# Altium schematic symbol library cm4-carrier-net.SchLib: 27 symbols
Pins are listed as number, name and electrical type; pins without a type are passive.

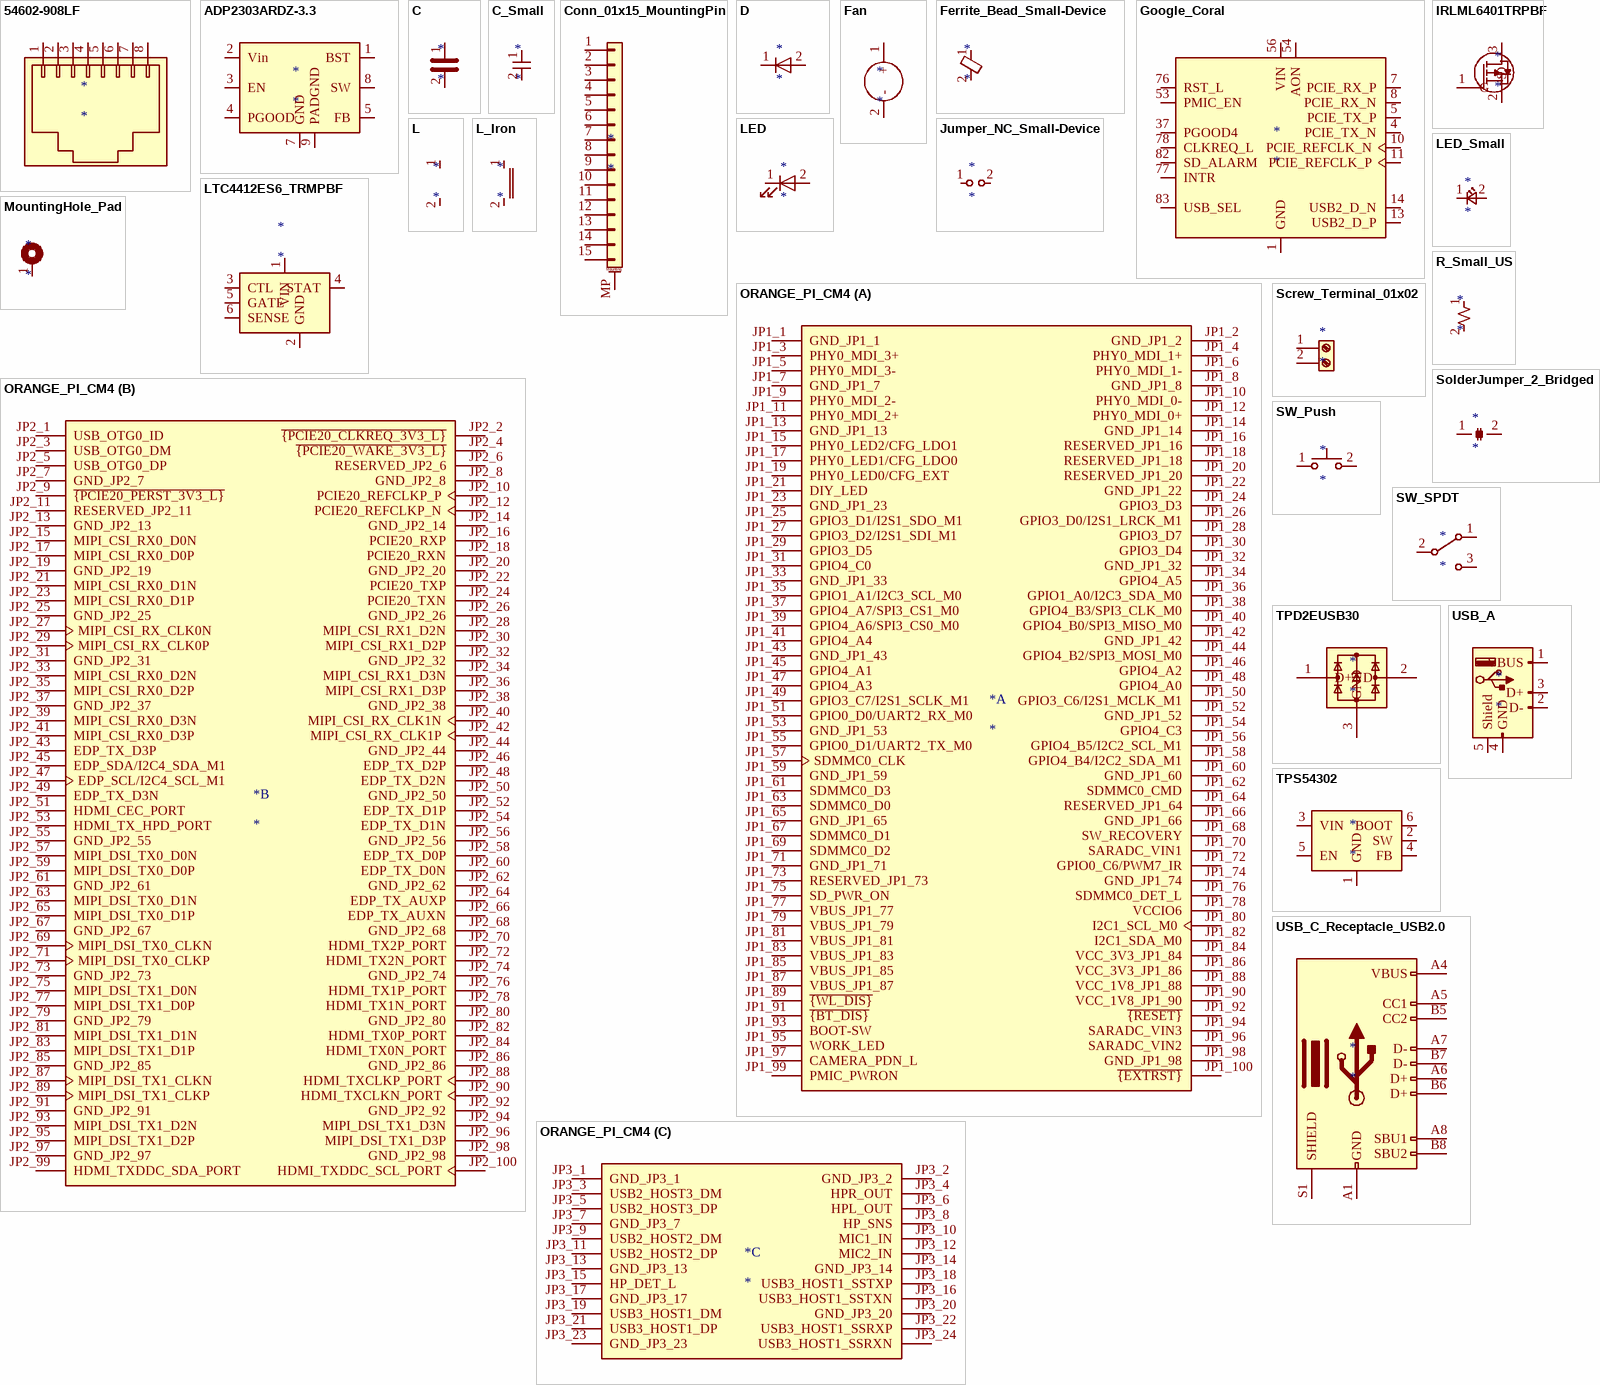
[diagram p0: symbols 54602-908LF to USB_C_Receptacle_USB2.0]

## 54602-908LF
designator *
pins: 1, 2, 3, 4, 5, 6, 7, 8

## ADP2303ARDZ-3.3
designator *
pins: 1 BST, 2 Vin, 3 EN, 4 PGOOD, 5 FB, 6 NC hidden, 7 GND, 8 SW, 9 PADGND

## C
designator *
pins: 1, 2

## C_Small
designator *
pins: 1, 2

## Conn_01x15_MountingPin
designator *
pins: 1 Pin_1, 2 Pin_2, 3 Pin_3, 4 Pin_4, 5 Pin_5, 6 Pin_6, 7 Pin_7, 8 Pin_8, 9 Pin_9, 10 Pin_10, 11 Pin_11, 12 Pin_12, 13 Pin_13, 14 Pin_14, 15 Pin_15, MP MountPin
text: Mounting

## D
designator *
pins: 1 K, 2 A

## Fan
designator *
pins: 1 +, 2 -

## Ferrite_Bead_Small-Device
designator *
pins: 1, 2

## Google_Coral
designator *
pins: 1 GND, 2 GND hidden, 3 GND hidden, 4 PCIE_TX_N, 5 PCIE_TX_P, 6 GND hidden, 7 PCIE_RX_P, 8 PCIE_RX_N, 9 GND hidden, 10 PCIE_REFCLK_N, 11 PCIE_REFCLK_P, 12 GND hidden, 13 USB2_D_P, 14 USB2_D_N, 15 GND hidden, 16 GND hidden, 17 GND hidden, 18 GND hidden, 19 GND hidden, 20 GND hidden, 21 GND hidden, 22 GND hidden, 23 GND hidden, 24 GND hidden, 25 GND hidden, 26 GND hidden, 27 GND hidden, 28 GND hidden, 29 GND hidden, 30 GND hidden, 31 GND hidden, 32 GND hidden, 33 GND hidden, 34 GND hidden, 35 GND hidden, 36 GND hidden, 37 PGOOD4, 38 GND hidden, 39 GND hidden, 40 GND hidden, 41 GND hidden, 42 GND hidden, 43 GND hidden, 44 GND hidden, 45 GND hidden, 46 GND hidden, 47 GND hidden, 48 GND hidden, 49 RESERVED hidden, 50 RESERVED hidden, 51 GND hidden, 52 RESERVED hidden, 53 PMIC_EN, 54 AON, 55 GND hidden, 56 VIN, 57 VIN hidden, 58 VIN hidden, 59 VIN hidden, 60 VIN hidden, 61 VIN hidden, 62 VIN hidden, 63 VIN hidden, 64 VIN hidden, 65 VIN hidden, 66 VIN hidden, 67 VIN hidden, 68 GND hidden, 69 GND hidden, 70 GND hidden, 71 GND hidden, 72 GND hidden, 73 GND hidden, 74 GND hidden, 75 GND hidden, 76 RST_L, 77 INTR, 78 CLKREQ_L, 79 GND hidden, 80 GND hidden, 81 GND hidden, 82 SD_ALARM, 83 USB_SEL, 84 RESERVED hidden, 85 RESERVED hidden, 86 GND hidden, 87 GND hidden, 88 GND hidden, 89 GND hidden, 90 GND hidden, 91 GND hidden, 92 GND hidden, 93 GND hidden, 94 GND hidden, 95 GND hidden, 96 GND hidden, 97 GND hidden, 98 GND hidden, 99 GND hidden, 100 GND hidden, 101 GND hidden, 102 GND hidden, 103 GND hidden, 104 GND hidden, 105 GND hidden, 106 GND hidden, 107 GND hidden, 108 GND hidden, 109 GND hidden, 110 GND hidden, 111 GND hidden, 112 GND hidden, 113 GND hidden, 114 GND hidden, 115 GND hidden, 116 GND hidden, 117 GND hidden, 118 GND hidden, 119 GND hidden, 120 GND hidden

## IRLML6401TRPBF
designator *
pins: 1 G, 2 S, 3 D

## Jumper_NC_Small-Device
designator *
pins: 1, 2

## L
designator *
pins: 1, 2

## L_Iron
designator *
pins: 1, 2

## LED
designator *
pins: 1 K, 2 A

## LED_Small
designator *
pins: 1 K, 2 A

## LTC4412ES6_TRMPBF
designator *
pins: 1 VIN, 2 GND, 3 CTL, 4 STAT, 5 GATE, 6 SENSE

## MountingHole_Pad
designator *
pins: 1

## ORANGE_PI_CM4
designator *
part A pins: JP1_1 GND_JP1_1, JP1_2 GND_JP1_2, JP1_3 PHY0_MDI_3+, JP1_4 PHY0_MDI_1+, JP1_5 PHY0_MDI_3-, JP1_6 PHY0_MDI_1-, JP1_7 GND_JP1_7, JP1_8 GND_JP1_8, JP1_9 PHY0_MDI_2-, JP1_10 PHY0_MDI_0-, JP1_11 PHY0_MDI_2+, JP1_12 PHY0_MDI_0+, JP1_13 GND_JP1_13, JP1_14 GND_JP1_14, JP1_15 PHY0_LED2/CFG_LDO1, JP1_16 RESERVED_JP1_16, JP1_17 PHY0_LED1/CFG_LDO0, JP1_18 RESERVED_JP1_18, JP1_19 PHY0_LED0/CFG_EXT, JP1_20 RESERVED_JP1_20, JP1_21 DIY_LED, JP1_22 GND_JP1_22, JP1_23 GND_JP1_23, JP1_24 GPIO3_D3, JP1_25 GPIO3_D1/I2S1_SDO_M1, JP1_26 GPIO3_D0/I2S1_LRCK_M1, JP1_27 GPIO3_D2/I2S1_SDI_M1, JP1_28 GPIO3_D7, JP1_29 GPIO3_D5, JP1_30 GPIO3_D4, JP1_31 GPIO4_C0, JP1_32 GND_JP1_32, JP1_33 GND_JP1_33, JP1_34 GPIO4_A5, JP1_35 GPIO1_A1/I2C3_SCL_M0, JP1_36 GPIO1_A0/I2C3_SDA_M0, JP1_37 GPIO4_A7/SPI3_CS1_M0, JP1_38 GPIO4_B3/SPI3_CLK_M0, JP1_39 GPIO4_A6/SPI3_CS0_M0, JP1_40 GPIO4_B0/SPI3_MISO_M0, JP1_41 GPIO4_A4, JP1_42 GND_JP1_42, JP1_43 GND_JP1_43, JP1_44 GPIO4_B2/SPI3_MOSI_M0, JP1_45 GPIO4_A1, JP1_46 GPIO4_A2, JP1_47 GPIO4_A3, JP1_48 GPIO4_A0, JP1_49 GPIO3_C7/I2S1_SCLK_M1, JP1_50 GPIO3_C6/I2S1_MCLK_M1, JP1_51 GPIO0_D0/UART2_RX_M0, JP1_52 GND_JP1_52, JP1_53 GND_JP1_53, JP1_54 GPIO4_C3, JP1_55 GPIO0_D1/UART2_TX_M0, JP1_56 GPIO4_B5/I2C2_SCL_M1, JP1_57 SDMMC0_CLK, JP1_58 GPIO4_B4/I2C2_SDA_M1, JP1_59 GND_JP1_59, JP1_60 GND_JP1_60, JP1_61 SDMMC0_D3, JP1_62 SDMMC0_CMD, JP1_63 SDMMC0_D0, JP1_64 RESERVED_JP1_64, JP1_65 GND_JP1_65, JP1_66 GND_JP1_66, JP1_67 SDMMC0_D1, JP1_68 SW_RECOVERY, JP1_69 SDMMC0_D2, JP1_70 SARADC_VIN1, JP1_71 GND_JP1_71, JP1_72 GPIO0_C6/PWM7_IR, JP1_73 RESERVED_JP1_73, JP1_74 GND_JP1_74, JP1_75 SD_PWR_ON, JP1_76 SDMMC0_DET_L, JP1_77 VBUS_JP1_77, JP1_78 VCCIO6, JP1_79 VBUS_JP1_79, JP1_80 I2C1_SCL_M0, JP1_81 VBUS_JP1_81, JP1_82 I2C1_SDA_M0, JP1_83 VBUS_JP1_83, JP1_84 VCC_3V3_JP1_84, JP1_85 VBUS_JP1_85, JP1_86 VCC_3V3_JP1_86, JP1_87 VBUS_JP1_87, JP1_88 VCC_1V8_JP1_88, JP1_89 ~{{WL_DIS}}, JP1_90 VCC_1V8_JP1_90, JP1_91 ~{{BT_DIS}}, JP1_92 ~{{RESET}}, JP1_93 BOOT-SW, JP1_94 SARADC_VIN3, JP1_95 WORK_LED, JP1_96 SARADC_VIN2, JP1_97 CAMERA_PDN_L, JP1_98 GND_JP1_98, JP1_99 PMIC_PWRON, JP1_100 ~{{EXTRST}}
part B pins: JP2_1 USB_OTG0_ID, JP2_2 ~{{PCIE20_CLKREQ_3V3_L}}, JP2_3 USB_OTG0_DM, JP2_4 ~{{PCIE20_WAKE_3V3_L}}, JP2_5 USB_OTG0_DP, JP2_6 RESERVED_JP2_6, JP2_7 GND_JP2_7, JP2_8 GND_JP2_8, JP2_9 ~{{PCIE20_PERST_3V3_L}}, JP2_10 PCIE20_REFCLKP_P, JP2_11 RESERVED_JP2_11, JP2_12 PCIE20_REFCLKP_N, JP2_13 GND_JP2_13, JP2_14 GND_JP2_14, JP2_15 MIPI_CSI_RX0_D0N, JP2_16 PCIE20_RXP, JP2_17 MIPI_CSI_RX0_D0P, JP2_18 PCIE20_RXN, JP2_19 GND_JP2_19, JP2_20 GND_JP2_20, JP2_21 MIPI_CSI_RX0_D1N, JP2_22 PCIE20_TXP, JP2_23 MIPI_CSI_RX0_D1P, JP2_24 PCIE20_TXN, JP2_25 GND_JP2_25, JP2_26 GND_JP2_26, JP2_27 MIPI_CSI_RX_CLK0N, JP2_28 MIPI_CSI_RX1_D2N, JP2_29 MIPI_CSI_RX_CLK0P, JP2_30 MIPI_CSI_RX1_D2P, JP2_31 GND_JP2_31, JP2_32 GND_JP2_32, JP2_33 MIPI_CSI_RX0_D2N, JP2_34 MIPI_CSI_RX1_D3N, JP2_35 MIPI_CSI_RX0_D2P, JP2_36 MIPI_CSI_RX1_D3P, JP2_37 GND_JP2_37, JP2_38 GND_JP2_38, JP2_39 MIPI_CSI_RX0_D3N, JP2_40 MIPI_CSI_RX_CLK1N, JP2_41 MIPI_CSI_RX0_D3P, JP2_42 MIPI_CSI_RX_CLK1P, JP2_43 EDP_TX_D3P, JP2_44 GND_JP2_44, JP2_45 EDP_SDA/I2C4_SDA_M1, JP2_46 EDP_TX_D2P, JP2_47 EDP_SCL/I2C4_SCL_M1, JP2_48 EDP_TX_D2N, JP2_49 EDP_TX_D3N, JP2_50 GND_JP2_50, JP2_51 HDMI_CEC_PORT, JP2_52 EDP_TX_D1P, JP2_53 HDMI_TX_HPD_PORT, JP2_54 EDP_TX_D1N, JP2_55 GND_JP2_55, JP2_56 GND_JP2_56, JP2_57 MIPI_DSI_TX0_D0N, JP2_58 EDP_TX_D0P, JP2_59 MIPI_DSI_TX0_D0P, JP2_60 EDP_TX_D0N, JP2_61 GND_JP2_61, JP2_62 GND_JP2_62, JP2_63 MIPI_DSI_TX0_D1N, JP2_64 EDP_TX_AUXP, JP2_65 MIPI_DSI_TX0_D1P, JP2_66 EDP_TX_AUXN, JP2_67 GND_JP2_67, JP2_68 GND_JP2_68, JP2_69 MIPI_DSI_TX0_CLKN, JP2_70 HDMI_TX2P_PORT, JP2_71 MIPI_DSI_TX0_CLKP, JP2_72 HDMI_TX2N_PORT, JP2_73 GND_JP2_73, JP2_74 GND_JP2_74, JP2_75 MIPI_DSI_TX1_D0N, JP2_76 HDMI_TX1P_PORT, JP2_77 MIPI_DSI_TX1_D0P, JP2_78 HDMI_TX1N_PORT, JP2_79 GND_JP2_79, JP2_80 GND_JP2_80, JP2_81 MIPI_DSI_TX1_D1N, JP2_82 HDMI_TX0P_PORT, JP2_83 MIPI_DSI_TX1_D1P, JP2_84 HDMI_TX0N_PORT, JP2_85 GND_JP2_85, JP2_86 GND_JP2_86, JP2_87 MIPI_DSI_TX1_CLKN, JP2_88 HDMI_TXCLKP_PORT, JP2_89 MIPI_DSI_TX1_CLKP, JP2_90 HDMI_TXCLKN_PORT, JP2_91 GND_JP2_91, JP2_92 GND_JP2_92, JP2_93 MIPI_DSI_TX1_D2N, JP2_94 MIPI_DSI_TX1_D3N, JP2_95 MIPI_DSI_TX1_D2P, JP2_96 MIPI_DSI_TX1_D3P, JP2_97 GND_JP2_97, JP2_98 GND_JP2_98, JP2_99 HDMI_TXDDC_SDA_PORT, JP2_100 HDMI_TXDDC_SCL_PORT
part C pins: JP3_1 GND_JP3_1, JP3_2 GND_JP3_2, JP3_3 USB2_HOST3_DM, JP3_4 HPR_OUT, JP3_5 USB2_HOST3_DP, JP3_6 HPL_OUT, JP3_7 GND_JP3_7, JP3_8 HP_SNS, JP3_9 USB2_HOST2_DM, JP3_10 MIC1_IN, JP3_11 USB2_HOST2_DP, JP3_12 MIC2_IN, JP3_13 GND_JP3_13, JP3_14 GND_JP3_14, JP3_15 HP_DET_L, JP3_16 USB3_HOST1_SSTXN, JP3_17 GND_JP3_17, JP3_18 USB3_HOST1_SSTXP, JP3_19 USB3_HOST1_DM, JP3_20 GND_JP3_20, JP3_21 USB3_HOST1_DP, JP3_22 USB3_HOST1_SSRXP, JP3_23 GND_JP3_23, JP3_24 USB3_HOST1_SSRXN

## R_Small_US
designator *
pins: 1, 2

## Screw_Terminal_01x02
designator *
pins: 1 Pin_1, 2 Pin_2

## SolderJumper_2_Bridged
designator *
pins: 1 A, 2 B

## SW_Push
designator *
pins: 1, 2

## SW_SPDT
designator *
pins: 1 A, 2 B, 3 C

## TPD2EUSB30
designator *
pins: 1 D+, 2 D-, 3 GND

## TPS54302
designator *
pins: 1 GND, 2 SW, 3 VIN, 4 FB, 5 EN, 6 BOOT

## USB_A
designator *
pins: 1 VBUS, 2 D-, 3 D+, 4 GND, 5 Shield

## USB_C_Receptacle_USB2.0
designator *
pins: A1 GND, A4 VBUS, A5 CC1, A6 D+, A7 D-, A8 SBU1, A9 VBUS hidden, A12 GND hidden, B1 GND hidden, B4 VBUS hidden, B5 CC2, B6 D+, B7 D-, B8 SBU2, B9 VBUS hidden, B12 GND hidden, S1 SHIELD